# EAGLE library part 91 (library display-lcd-lxd)
Dual 20-segment bar indicator, .30" (7.72) Direct Drive Display Additional Descriptors: none
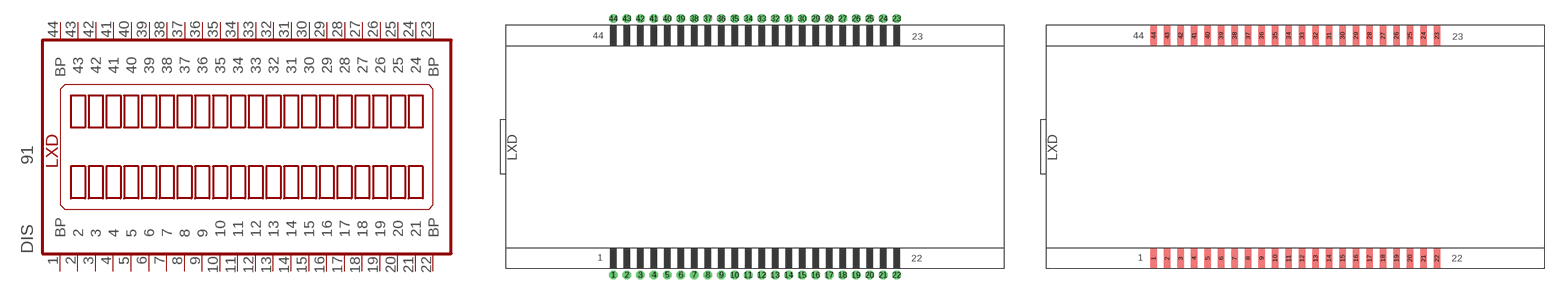
[diagram p28: symbol with the pads of 91-D; footprints 91-D, 91-E]

Designator prefix DIS

## 91DIP  [91-D]
1  BP  pas
2  2  pas
3  3  pas
4  4  pas
5  5  pas
6  6  pas
7  7  pas
8  8  pas
9  9  pas
10  10  pas
11  11  pas
12  12  pas
13  13  pas
14  14  pas
15  15  pas
16  16  pas
17  17  pas
18  18  pas
19  19  pas
20  20  pas
21  21  pas
22  BP  pas
23  BP  pas
24  24  pas
25  25  pas
26  26  pas
27  27  pas
28  28  pas
29  29  pas
30  30  pas
31  31  pas
32  32  pas
33  33  pas
34  34  pas
35  35  pas
36  36  pas
37  37  pas
38  38  pas
39  39  pas
40  40  pas
41  41  pas
42  42  pas
43  43  pas
44  BP  pas

## 91SMD  [91-E]
Pads as for 91-D

## Footprint 91-D (pad centres in mm)
Glass Size: 3.695" x 1.80" &nbsp &nbsp &nbsp &nbsp &nbsp &nbsp &nbsp &nbsp &nbsp (93.85 x 45.72)
drill 0.813 pad 1.6 octagon: 1 -26.67,-24.13; 2 -24.13,-24.13; 3 -21.59,-24.13; 4 -19.05,-24.13; 5 -16.51,-24.13; 6 -13.97,-24.13; 7 -11.43,-24.13; 8 -8.89,-24.13; 9 -6.35,-24.13; 10 -3.81,-24.13; 11 -1.27,-24.13; 12 1.27,-24.13; 13 3.81,-24.13; 14 6.35,-24.13; 15 8.89,-24.13; 16 11.43,-24.13; 17 13.97,-24.13; 18 16.51,-24.13; 19 19.05,-24.13; 20 21.59,-24.13; 21 24.13,-24.13; 22 26.67,-24.13; 23 26.67,24.13; 24 24.13,24.13; 25 21.59,24.13; 26 19.05,24.13; 27 16.51,24.13; 28 13.97,24.13; 29 11.43,24.13; 30 8.89,24.13; 31 6.35,24.13; 32 3.81,24.13; 33 1.27,24.13; 34 -1.27,24.13; 35 -3.81,24.13; 36 -6.35,24.13; 37 -8.89,24.13; 38 -11.43,24.13; 39 -13.97,24.13; 40 -16.51,24.13; 41 -19.05,24.13; 42 -21.59,24.13; 43 -24.13,24.13; 44 -26.67,24.13

## Footprint 91-E (pad centres in mm)
Glass Size: 3.695" x 1.80" &nbsp &nbsp &nbsp &nbsp &nbsp &nbsp &nbsp &nbsp &nbsp (93.85 x 45.72)
smd 1.27 x 3.81: 1 -26.67,-20.955; 2 -24.13,-20.955; 3 -21.59,-20.955; 4 -19.05,-20.955; 5 -16.51,-20.955; 6 -13.97,-20.955; 7 -11.43,-20.955; 8 -8.89,-20.955; 9 -6.35,-20.955; 10 -3.81,-20.955; 11 -1.27,-20.955; 12 1.27,-20.955; 13 3.81,-20.955; 14 6.35,-20.955; 15 8.89,-20.955; 16 11.43,-20.955; 17 13.97,-20.955; 18 16.51,-20.955; 19 19.05,-20.955; 20 21.59,-20.955; 21 24.13,-20.955; 22 26.67,-20.955; 23 26.67,20.955; 24 24.13,20.955; 25 21.59,20.955; 26 19.05,20.955; 27 16.51,20.955; 28 13.97,20.955; 29 11.43,20.955; 30 8.89,20.955; 31 6.35,20.955; 32 3.81,20.955; 33 1.27,20.955; 34 -1.27,20.955; 35 -3.81,20.955; 36 -6.35,20.955; 37 -8.89,20.955; 38 -11.43,20.955; 39 -13.97,20.955; 40 -16.51,20.955; 41 -19.05,20.955; 42 -21.59,20.955; 43 -24.13,20.955; 44 -26.67,20.955